# Altium footprint library 我的PCB.PcbLib: 347 footprints (part 19 of 22)
Each footprint in its own frame and in the unit in brackets; x right, y up, seen from the top. Pads: shape width x height; smd on the part's side, far side on the other; paste and mask are expansions set on the pad; w line width, h text height; cw(c..) or ccw(c..) is an arc to the next point about the centre after c.
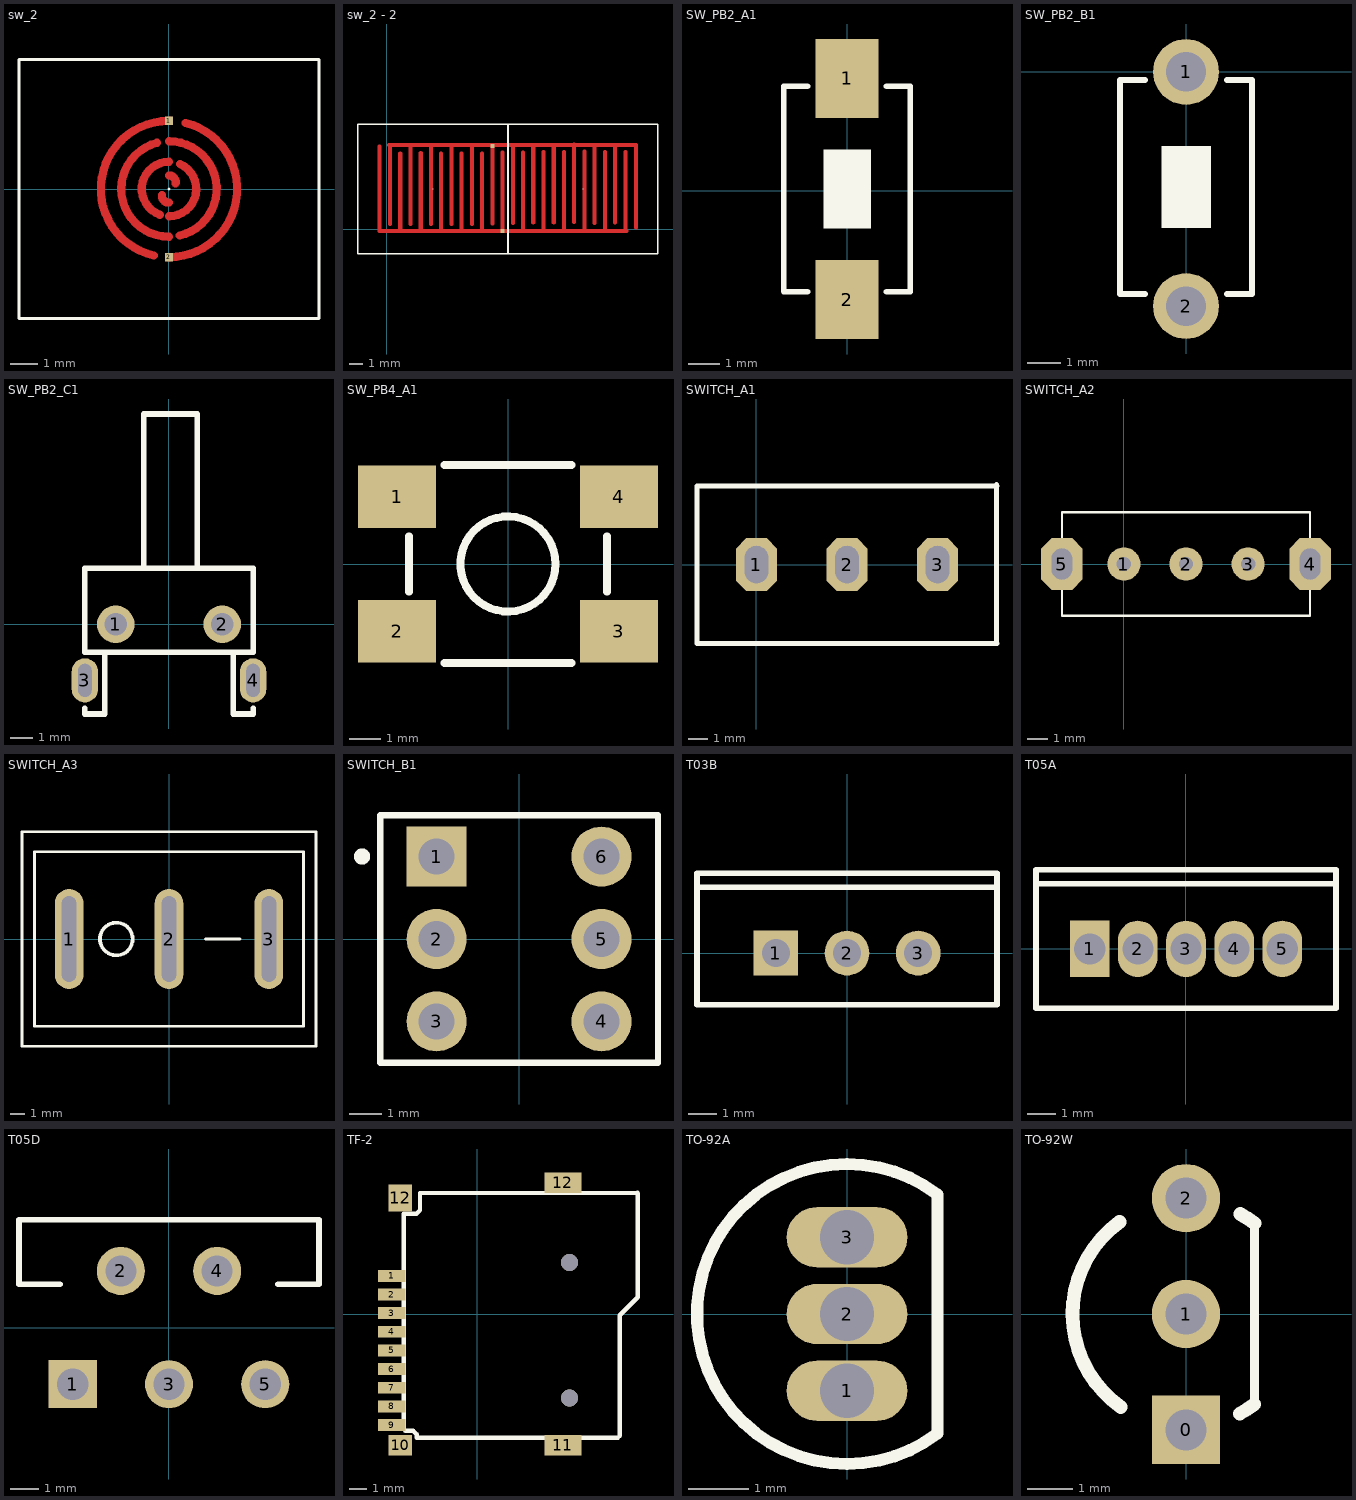
[diagram p18: the footprints below, top view; thin cyan lines are the x and y axes]

## sw_2 [mm]
pads (4):
  rect 0.3x0.3 smd: 1(0,2.5) 2(0,-2.5)
  round 0.1 on Top Overlay: 9(0,0) 9(0,0)
Top Layer:
  lines w0.3: -0.558,-2.437 cw(c0,0) 0,2.5 ; -0.439,1.694 ccw(c0,0) 0,-1.75 ; -0.339,-0.941 cw(c0,0) 0,1 ; -0.259,-0.218 ccw(c-0.011,-0.25) 0,-0.5 ; 0,-2.5 ccw(c0,0) 0.606,2.425 ; 0,-1 ccw(c0,0) 0.406,0.914 ; 0,0.5 cw(c-0.004,0.25) 0.242,0.202 ; 0,1.75 cw(c0,0) 0.394,-1.705
Top Overlay:
  lines w0.1: -5.5,-4.75 -5.5,4.75 5.5,4.75 5.5,-4.75 -5.5,-4.75
Top Solder:
  lines w0.3: -0.558,-2.437 cw(c0,0) 0,2.5 ; -0.439,1.694 ccw(c0,0) 0,-1.75 ; -0.339,-0.941 cw(c0,0) 0,1 ; -0.259,-0.218 ccw(c-0.011,-0.25) 0,-0.5 ; 0,-1 ccw(c0,0) 0.406,0.914 ; 0,1.75 cw(c0,0) 0.394,-1.705 ; 0.242,0.202 ccw(c-0.004,0.25) 0,0.5 ; 0.606,2.425 cw(c0,0) 0,-2.5 ; 0,-2.5 0,-0.5 ; 0,-2.5 0,-0.5 ; 0,0.5 0,2.5 ; 0,0.5 0,2.5

## sw_2 - 2 [mm]
pads (6):
  rect 0.3x0.3 smd: 1(8.458,-0.113) 2(7.728,6.103)
  round 0.1 on Top Overlay: 9(3.377,2.953) 9(3.377,2.953) 9(14.372,2.953) 9(14.372,2.953)
Top Layer:
  lines w0.3: -0.548,6.068 -0.548,-0.113 17.548,-0.113 ; 0.157,6.178 18.253,6.178 18.253,0.13 ; 0.228,0.397 0.228,6.079 ; 0.977,-0.113 0.977,5.569 ; 1.728,0.397 1.728,6.079 ; 2.477,-0.088 2.477,5.594 ; 3.228,0.372 3.228,6.054 ; 3.977,-0.138 3.977,5.544 ; 4.728,0.397 4.728,6.079 ; 5.477,-0.113 5.477,5.569 ; 6.228,0.397 6.228,6.079 ; 6.977,-0.113 6.977,5.569 ; 7.728,0.421 7.728,6.103 ; 8.477,-0.063 8.477,5.619 ; 9.228,0.446 9.228,6.128 ; 9.977,-0.038 9.977,5.644 ; 10.728,0.496 10.728,6.178 ; 11.477,-0.014 11.477,5.668 ; 12.228,0.496 12.228,6.178 ; 12.977,-0.014 12.977,5.668 ; 13.728,0.521 13.728,6.203 ; 14.477,0.011 14.477,5.693 ; 15.228,0.471 15.228,6.153 ; 15.977,-0.014 15.977,5.668 ; 16.728,0.496 16.728,6.178 ; 17.477,-0.014 17.477,5.668
Top Overlay:
  lines w0.1: -2.123,-1.797 8.877,-1.797 8.877,7.703 -2.123,7.703 -2.123,-1.797 ; 8.872,-1.797 8.872,7.703 19.872,7.703 19.872,-1.797 8.872,-1.797
Top Solder:
  lines w0.3: -0.556,6.048 -0.556,-0.133 17.54,-0.133 ; 0.149,6.158 18.245,6.158 18.245,0.11 ; 0.22,0.377 0.22,6.059 ; 0.969,-0.133 0.969,5.549 ; 1.72,0.377 1.72,6.059 ; 2.469,-0.108 2.469,5.574 ; 3.22,0.352 3.22,6.034 ; 3.969,-0.158 3.969,5.524 ; 4.72,0.377 4.72,6.059 ; 5.469,-0.133 5.469,5.549 ; 6.22,0.377 6.22,6.059 ; 6.969,-0.133 6.969,5.549 ; 7.72,0.401 7.72,6.083 ; 8.469,-0.083 8.469,5.599 ; 9.22,0.426 9.22,6.108 ; 9.969,-0.058 9.969,5.624 ; 10.72,0.476 10.72,6.158 ; 11.469,-0.034 11.469,5.648 ; 12.22,0.476 12.22,6.158 ; 12.969,-0.034 12.969,5.648 ; 13.72,0.501 13.72,6.183 ; 14.469,-0.009 14.469,5.673 ; 15.22,0.451 15.22,6.133 ; 15.969,-0.034 15.969,5.648 ; 16.72,0.476 16.72,6.158 ; 17.469,-0.034 17.469,5.648

## SW_PB2_A1 [mm]
pads (2):
  rect 2x2.5 smd: 1(0,3.556) 2(0,-3.444)
Top Overlay:
  region: -0.747,1.309 -0.747,-1.191 0.753,-1.191 0.753,1.309
  lines w0.178: -1.25,-3.194 -2,-3.19 -2,3.306 -1.25,3.306 ; 1.25,-3.194 2,-3.194 2,3.306 1.25,3.306
3D body: height 0.8, standoff 0, extent -2.032,-3.175 2.032,3.302
3D body: height 1.2, standoff 0.8, extent -0.762,-1.143 0.762,1.27

## SW_PB2_B1 [mm]
pads (2):
  round 2 hole 1.2: 1(0,0) 2(0,-7.112)
Top Overlay:
  region: -0.747,-2.247 -0.747,-4.747 0.753,-4.747 0.753,-2.247
  lines w0.178: -1.25,-6.75 -2,-6.746 -2,-0.25 -1.25,-0.25 ; 1.25,-6.75 2,-6.75 2,-0.25 1.25,-0.25

## SW_PB2_C1 [mm] "侧卧微动开关"
height 8
pads (4):
  round 1.7 hole 1: 1(-2.413,0) 2(2.413,0)
  oval 1.2x2 hole 0.6 slot 1.5 at 90 deg: 3(-3.81,-2.54) 4(3.81,-2.54)
Top Overlay:
  lines w0.25: -3.81,-3.81 -3.81,-4.064 -2.921,-4.064 -2.921,-1.27 ; -1.143,2.54 -1.143,9.525 1.27,9.525 1.27,2.54 ; 2.921,-1.27 2.921,-4.064 3.81,-4.064 3.81,-3.81 ; -3.81,-1.27 3.81,-1.27 3.81,2.54 -3.81,2.54 -3.81,-1.27

## SW_PB4_A1 [mm]
pads (4):
  rect 2.5x2 smd: 1(-3.556,2.159) 2(-3.556,-2.159) 3(3.556,-2.159) 4(3.556,2.159)
Top Overlay:
  circle w0.254: c0,0 r1.524
  lines w0.25: -3.175,-0.889 -3.175,0.889 ; -2.032,-3.175 2.032,-3.175 ; -2.032,3.175 2.032,3.175 ; 3.175,-0.889 3.175,0.889
3D body: height 6, standoff 0, extent -1.524,-1.524 1.524,1.524
3D body: height 1.5, standoff 0, extent -3.175,-3.175 3.175,3.175

## SWITCH_A1 [mm] "扭子开关"
height 10
pads (3):
  oct 2.1x2.7 hole 1.2 slot 1.9 at 90 deg: 1(0,0) 2(4.6,0) 3(9.2,0)
Top Overlay:
  lines w0.254: 12.192,-3.972 12.192,4.064 ; 12.22,-4 -3.02,-4 -3.02,4 12.22,4

## SWITCH_A2 [mm] "平拨开关"
height 9
pads (5):
  round 1.6 hole 0.7: 1(0,0) 2(3,0) 3(6,0)
  oct 2x2.5 hole 1 slot 1.5 at 90 deg: 4(9,0) 5(-3,0)
Top Overlay:
  lines w0.1: -3,-2.5 9,-2.5 9,2.5 -3,2.5 -3,-2.5

## SWITCH_A3 [mm] "单刀单掷开关"
height 9
pads (3):
  oval 2x7 hole 1 slot 6 at 90 deg: 1(-6.985,0) 2(0,0) 3(6.985,0)
Top Overlay:
  circle w0.254: c-3.683,0 r1.143
  lines w0.2: 2.54,0 4.953,0 ; -10.287,-7.493 -10.287,7.493 10.287,7.493 10.287,-7.493 -10.287,-7.493 ; -9.398,-6.096 9.398,-6.096 9.398,6.096 -9.398,6.096 -9.398,-6.096

## SWITCH_B1 [mm] "单刀"
height 1.75
pads (6):
  rect 1.85x1.85 hole 1.1: 1(-2.54,2.54)
  round 1.85 hole 1.1: 2(-2.54,0) 3(-2.54,-2.54) 4(2.54,-2.54) 5(2.54,0) 6(2.54,2.54)
Top Overlay:
  circle w0.25: c-4.836,2.541 r0.125
  lines w0.2: -4.28,-3.81 4.28,-3.81 4.28,3.81 -4.28,3.81 -4.28,-3.81

## T03B [mm] "TO, Thru-Hole, Vertical, Heatsink Mounted; 3 In-Line Leads; Pitch 2.54 mm"
height 19.4
pads (3):
  rect 1.6x1.6 hole 1: 1(-2.54,0)
  round 1.6 hole 1: 2(0,0) 3(2.54,0)
Top Overlay:
  lines w0.2: -5.35,2.35 5.35,2.35 ; -5.35,-1.85 -5.35,2.85 5.35,2.85 5.35,-1.85 -5.35,-1.85

## T05A [mm] "TO, Thru-Hole, Vertical, Heatsink Mounted; 5 In-Line Leads; Pitch 1.70 mm"
height 15.3
pads (5):
  rect 1.4x2 hole 1.1: 1(-3.4,0)
  oval 1.4x2 hole 1.1: 2(-1.7,0) 3(0,0) 4(1.7,0) 5(3.4,0)
Top Overlay:
  lines w0.2: -5.3,2.3 5.3,2.3 ; -5.3,-2.1 -5.3,2.8 5.3,2.8 5.3,-2.1 -5.3,-2.1

## T05D [mm]
height 21.1
pads (5):
  rect 1.7x1.7 hole 1.1: 1(-3.4,-2)
  round 1.7 hole 1.1: 2(-1.7,2) 3(0,-2) 4(1.7,2) 5(3.4,-2)
Top Overlay:
  lines w0.2: -3.854,1.53 -5.3,1.53 -5.3,3.81 5.3,3.81 5.3,1.53 3.854,1.53

## TF-2 [mm]
pads (13):
  rect 1.6x0.7 smd: 1(-5.05,2.25) 2(-5.05,1.15) 3(-5.05,0.05) 4(-5.05,-1.05) 5(-5.05,-2.15) 6(-5.05,-3.25) 7(-5.05,-4.35) 8(-5.05,-5.45) 9(-5.05,-6.55)
  rect 1.4x1.2 smd: 10(-4.55,-7.75)
  rect 2.2x1.2 smd: 11(5.05,-7.75) 12(5.05,7.75)
  rect 1.4x1.6 smd: 12(-4.55,6.85)
via 5.45,3.05 diameter 1 hole 1
via 5.45,-4.95 diameter 1 hole 1
Top Overlay:
  lines w0.254: 9.45,7.15 -3.383,7.134 -3.383,6.118 -3.586,5.915 -4.348,5.915 -4.348,-6.785 -4.246,-6.886 -3.789,-6.886 -3.58,-7.096 -3.58,-7.293 8.301,-7.293 8.403,-7.191 8.403,-0.079 9.47,0.988 9.47,7.13

## TO-92A [mm]
height 6.86
pads (3):
  oval 2x1 hole 0.9: 1(0,-1.27) 2(0,0) 3(0,1.27)
Top Overlay:
  lines w0.2: 1.5,-1.98 cw(c0,0) 1.5,1.98 1.5,-1.98

## TO-92W [mm] "TO, Flat Index; 3 In-Line, Axial Leads (Wide Pitch); Body Dia. 4.7mm; Leads 0.56 x 0.51 mm (max)"
height 7.96
pads (3):
  rect 1.5x1.5 hole 0.9: 0(0,-2.54)
  round 1.5 hole 0.9: 1(0,0) 2(0,2.54)
Top Overlay:
  lines w0.2: 1.5,-1.98 1.5,1.98
  lines w0.3: -1.457,2.019 ccw(c0,0) -1.429,-2.039 ; 1.177,-2.188 ccw(c0,0) 1.5,-1.98 ; 1.189,2.194 cw(c0,0) 1.507,1.989